# Altium footprint library optics.PcbLib: 67 footprints (part 5 of 5)
Each footprint in its own frame and in the unit in brackets; x right, y up, seen from the top. Pads: shape width x height; smd on the part's side, far side on the other; paste and mask are expansions set on the pad; w line width, h text height; cw(c..) or ccw(c..) is an arc to the next point about the centre after c.
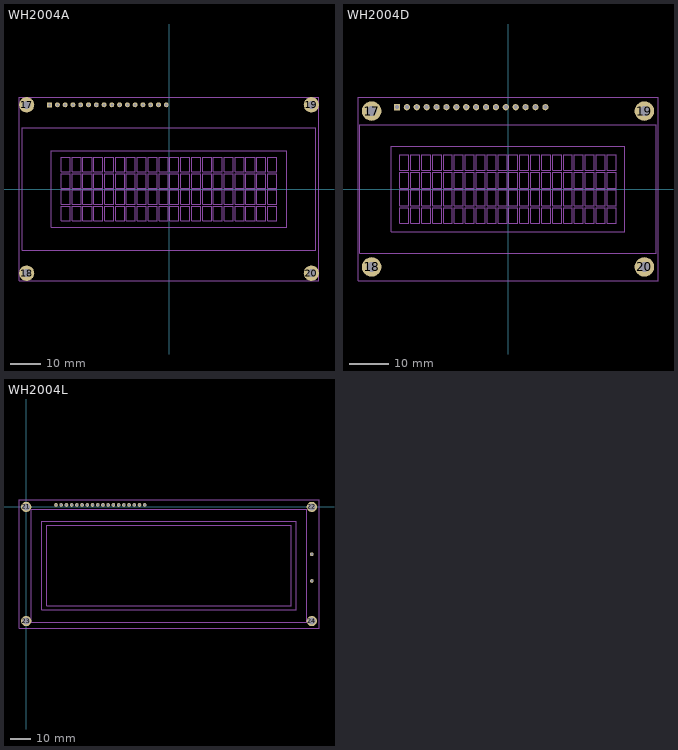
[diagram p4: the footprints below, top view; thin cyan lines are the x and y axes]

## WH2004A [mm]
pads (20):
  rect 1.6x1.6 hole 1: 1(-39,27.5)
  round 1.6 hole 1: 2(-36.46,27.5) 3(-33.92,27.5) 4(-31.38,27.5) 5(-28.84,27.5) 6(-26.3,27.5) 7(-23.76,27.5) 8(-21.22,27.5) 9(-18.68,27.5) 10(-16.14,27.5) 11(-13.6,27.5) 12(-11.06,27.5) 13(-8.52,27.5) 14(-5.98,27.5) 15(-3.44,27.5) 16(-0.9,27.5)
  round 5 hole 2.6 unplated: 17(-46.5,27.5) 18(-46.5,-27.5) 19(46.5,27.5) 20(46.5,-27.5)
Mechanical 1:
  drawing of 332 lines, arcs and shapes, not listed

## WH2004D [mm]
pads (20):
  rect 1.6x1.6 hole 1: 1(-28.5,21)
  round 1.6 hole 1: 2(-25.96,21) 3(-23.42,21) 4(-20.88,21) 5(-18.34,21) 6(-15.8,21) 7(-13.26,21) 8(-10.72,21) 9(-8.18,21) 10(-5.64,21) 11(-3.1,21) 12(-0.56,21) 13(1.98,21) 14(4.52,21) 15(7.06,21) 16(9.6,21)
  round 5 hole 2.6 unplated: 17(-35,20) 18(-35,-20) 19(35,20) 20(35,-20)
Mechanical 1:
  drawing of 332 lines, arcs and shapes, not listed

## WH2004L [mm]
pads (24):
  round 1.8 hole 1.2: 1(14.5,1) 2(17.04,1) 3(19.58,1) 4(22.12,1) 5(24.66,1) 6(27.2,1) 7(29.74,1) 8(32.28,1) 9(34.82,1) 10(37.36,1) 11(39.9,1) 12(42.44,1) 13(44.98,1) 14(47.52,1) 15(50.06,1) 16(52.6,1) 17(55.14,1) 18(57.68,1) 19(139,-23) 20(139,-36)
  round 5 hole 3.5: 21(0,0) 22(139,0) 23(0,-55.5) 24(139,-55.5)
Mechanical 1:
  lines w0.25: -3.5,-59 -3.5,3.5 142.5,3.5 142.5,-59 -3.5,-59 ; 2.5,-56 2.5,-1 136.5,-1 136.5,-56 2.5,-56 ; 7.5,-50 7.5,-7 131.5,-7 131.5,-50 7.5,-50 ; 10,-48 10,-9 129,-9 129,-48 10,-48